# Altium integrated library Linear Technology Power Management Switching Regulator LTC1174-LTC3901.IntLib: 2647 symbols (part 57 of 364)
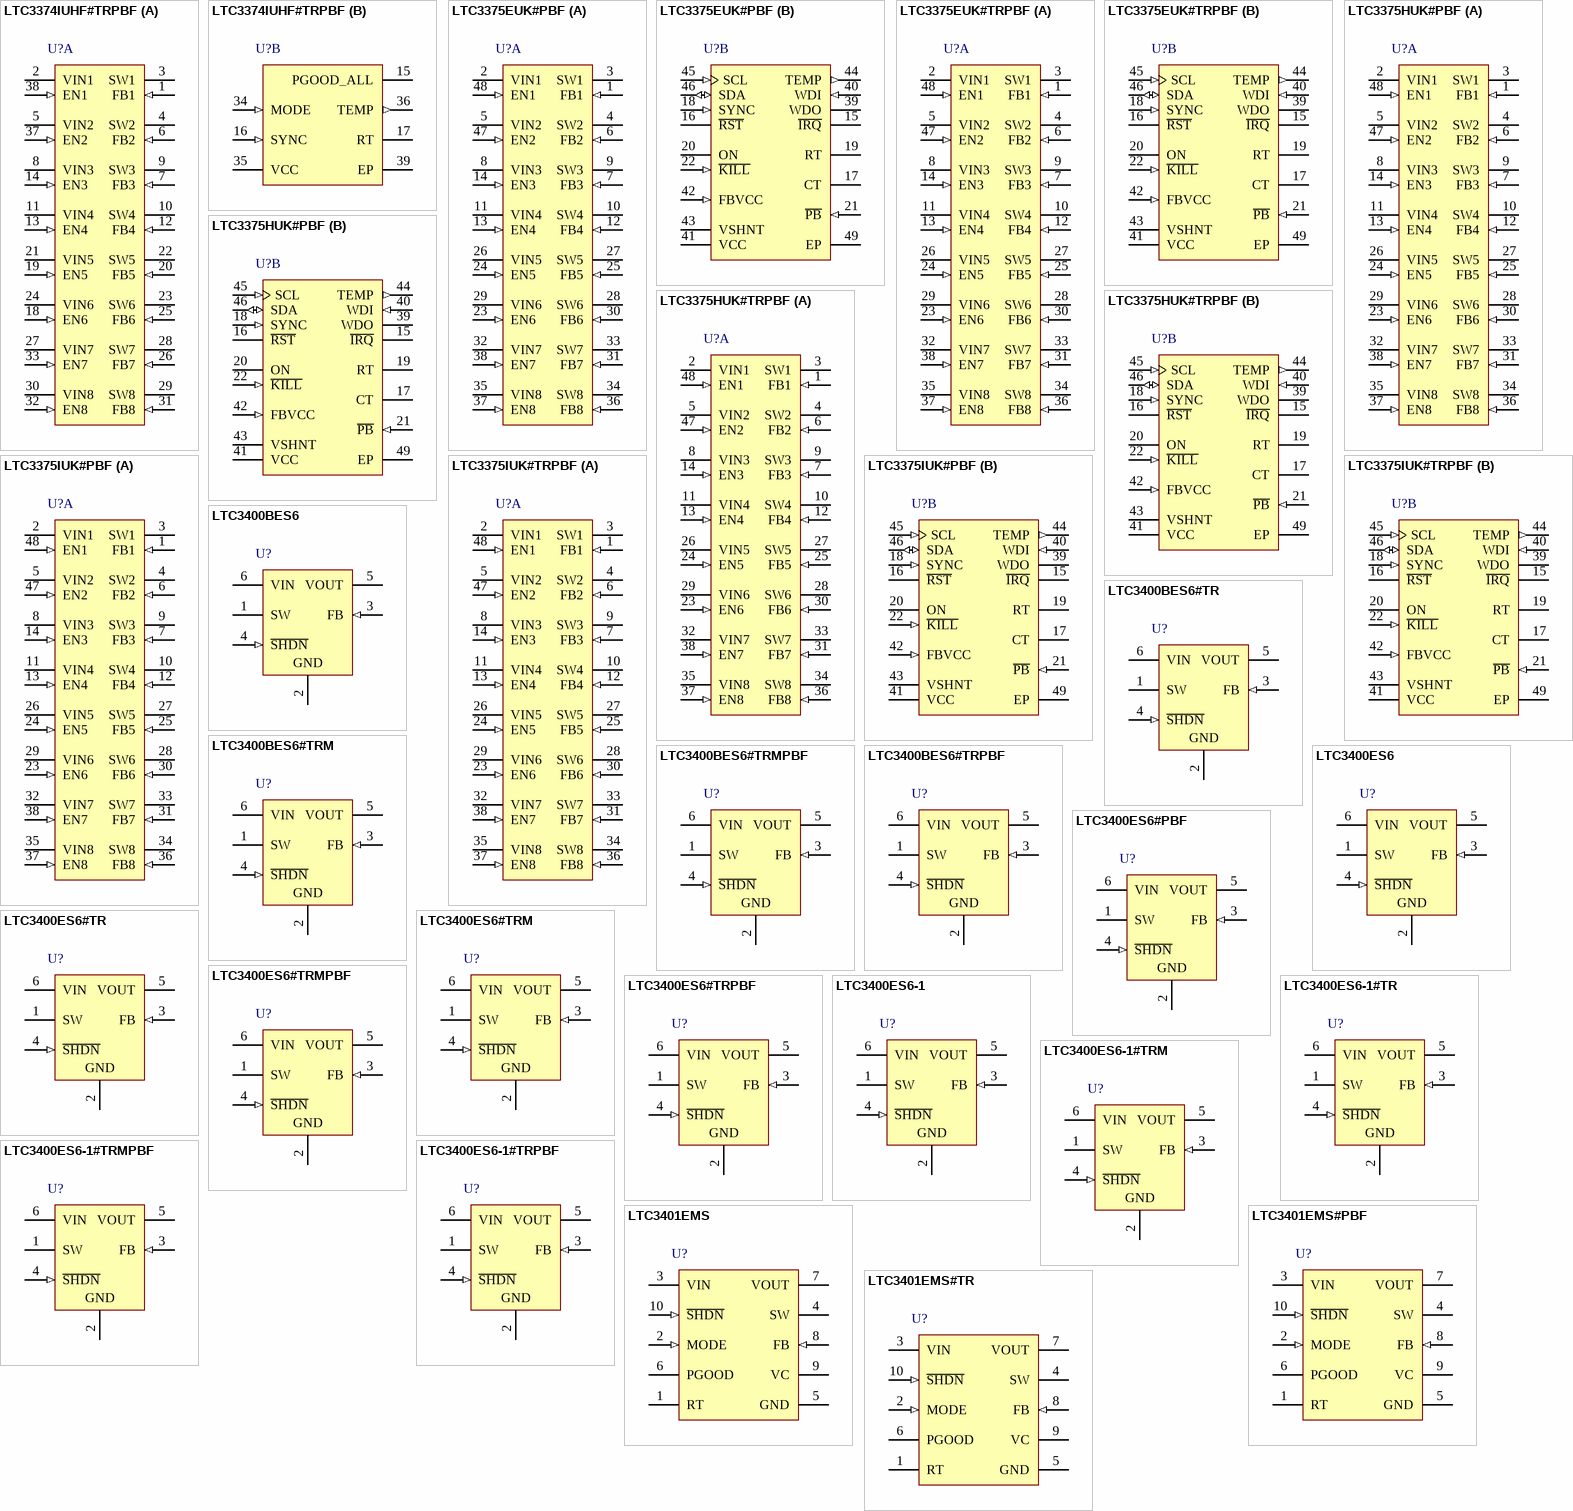
[diagram p244: symbols LTC3374IUHF#TRPBF to LTC3401EMS#TR]

## LTC3400ES6-1
designator U?
600 mA, 1.2 MHz Micropower Synchronous Boost Converter, 6-pin SOT23 (S6-6), -30 to 85 degC; Manufacturer: Linear Technology; PartNumber: LTC3400ES6-1; Number of Outputs: 1; PackageVersion: Jun-10; PackageReference: S6-6; PackageDescription: 6-Pin Plastic TSOT-23, Body 2.9 x 1.63 mm, Pitch 0.95 mm; RoHS: FALSE; Mounting Technology: Surface Mount; Code_JEDEC: MO-193; ComponentLink1Description: Manufacturer URL; ComponentLink1URL: http://www.linear.com/; ComponentLink2Description: Datasheet; ComponentLink2URL: http://cds.linear.com/docs/en/datasheet/34001f.pdf; ComponentLink3Description: Package Specification; ComponentLink3URL: http://cds.linear.com/docs/en/packaging/SOT_6_05-08-1636.pdf
footprint LT-S6-6-TSOT-23_N (SOT23, 6-Leads, Body 2.9x1.75mm, Pitch 0.95mm, IPC Medium Density)
footprint LT-S6-6-TSOT-23_L (SOT23, 6-Leads, Body 2.9x1.75mm, Pitch 0.95mm, IPC High Density)
footprint LT-S6-6-TSOT-23_M (SOT23, 6-Leads, Body 2.9x1.75mm, Pitch 0.95mm, IPC Low Density)
pins: 1 SW, 2 GND (power), 3 FB (in), 4 ~{SHDN} (in), 5 VOUT (power), 6 VIN (power)

## LTC3400ES6-1#TR
designator U?
600 mA, 1.2 MHz Micropower Synchronous Boost Converter, 6-pin SOT23 (S6-6), -30 to 85 degC, Tape and Reel; Manufacturer: Linear Technology; PartNumber: LTC3400ES6-1#TR; Number of Outputs: 1; PackageVersion: Jun-10; PackageReference: S6-6; PackageDescription: 6-Pin Plastic TSOT-23, Body 2.9 x 1.63 mm, Pitch 0.95 mm; Supplier 1: Digi-Key; Supplier Part Number 1: LTC3400ES6-1#TR-ND; Packing: Tape and Reel; RoHS: FALSE; Mounting Technology: Surface Mount; Code_JEDEC: MO-193; ComponentLink1Description: Manufacturer URL; ComponentLink1URL: http://www.linear.com/; ComponentLink2Description: Datasheet; ComponentLink2URL: http://cds.linear.com/docs/en/datasheet/34001f.pdf; ComponentLink3Description: Package Specification; ComponentLink3URL: http://cds.linear.com/docs/en/packaging/SOT_6_05-08-1636.pdf
footprint LT-S6-6-TSOT-23_N (SOT23, 6-Leads, Body 2.9x1.75mm, Pitch 0.95mm, IPC Medium Density)
footprint LT-S6-6-TSOT-23_L (SOT23, 6-Leads, Body 2.9x1.75mm, Pitch 0.95mm, IPC High Density)
footprint LT-S6-6-TSOT-23_M (SOT23, 6-Leads, Body 2.9x1.75mm, Pitch 0.95mm, IPC Low Density)
pins: 1 SW, 2 GND (power), 3 FB (in), 4 ~{SHDN} (in), 5 VOUT (power), 6 VIN (power)

## LTC3400ES6-1#TRM
designator U?
600 mA, 1.2 MHz Micropower Synchronous Boost Converter, 6-pin SOT23 (S6-6), -30 to 85 degC, Mini Tape and Reel; Manufacturer: Linear Technology; PartNumber: LTC3400ES6-1#TRM; Number of Outputs: 1; PackageVersion: Jun-10; PackageReference: S6-6; PackageDescription: 6-Pin Plastic TSOT-23, Body 2.9 x 1.63 mm, Pitch 0.95 mm; Supplier 1: Digi-Key; Supplier Part Number 1: LTC3400ES6-1#TRM-ND; Packing: Mini Tape and Reel; RoHS: FALSE; Mounting Technology: Surface Mount; Code_JEDEC: MO-193; ComponentLink1Description: Manufacturer URL; ComponentLink1URL: http://www.linear.com/; ComponentLink2Description: Datasheet; ComponentLink2URL: http://cds.linear.com/docs/en/datasheet/34001f.pdf; ComponentLink3Description: Package Specification; ComponentLink3URL: http://cds.linear.com/docs/en/packaging/SOT_6_05-08-1636.pdf
footprint LT-S6-6-TSOT-23_N (SOT23, 6-Leads, Body 2.9x1.75mm, Pitch 0.95mm, IPC Medium Density)
footprint LT-S6-6-TSOT-23_L (SOT23, 6-Leads, Body 2.9x1.75mm, Pitch 0.95mm, IPC High Density)
footprint LT-S6-6-TSOT-23_M (SOT23, 6-Leads, Body 2.9x1.75mm, Pitch 0.95mm, IPC Low Density)
pins: 1 SW, 2 GND (power), 3 FB (in), 4 ~{SHDN} (in), 5 VOUT (power), 6 VIN (power)

## LTC3400ES6-1#TRMPBF
designator U?
600 mA, 1.2 MHz Micropower Synchronous Boost Converter, 6-pin SOT23 (S6-6), -30 to 85 degC, Pb-Free, Mini Tape and Reel; Manufacturer: Linear Technology; PartNumber: LTC3400ES6-1#TRMPBF; Number of Outputs: 1; PackageVersion: Jun-10; PackageReference: S6-6; PackageDescription: 6-Pin Plastic TSOT-23, Body 2.9 x 1.63 mm, Pitch 0.95 mm; Supplier 1: Digi-Key; Supplier Part Number 1: LTC3400ES6-1#TRMPBF-ND; Packing: Mini Tape and Reel; RoHS: TRUE; Mounting Technology: Surface Mount; Code_JEDEC: MO-193; ComponentLink1Description: Manufacturer URL; ComponentLink1URL: http://www.linear.com/; ComponentLink2Description: Datasheet; ComponentLink2URL: http://cds.linear.com/docs/en/datasheet/34001f.pdf; ComponentLink3Description: Package Specification; ComponentLink3URL: http://cds.linear.com/docs/en/packaging/SOT_6_05-08-1636.pdf
footprint LT-S6-6-TSOT-23_N (SOT23, 6-Leads, Body 2.9x1.75mm, Pitch 0.95mm, IPC Medium Density)
footprint LT-S6-6-TSOT-23_L (SOT23, 6-Leads, Body 2.9x1.75mm, Pitch 0.95mm, IPC High Density)
footprint LT-S6-6-TSOT-23_M (SOT23, 6-Leads, Body 2.9x1.75mm, Pitch 0.95mm, IPC Low Density)
pins: 1 SW, 2 GND (power), 3 FB (in), 4 ~{SHDN} (in), 5 VOUT (power), 6 VIN (power)

## LTC3400ES6-1#TRPBF
designator U?
600 mA, 1.2 MHz Micropower Synchronous Boost Converter, 6-pin SOT23 (S6-6), -30 to 85 degC, Pb-Free, Tape and Reel; Manufacturer: Linear Technology; PartNumber: LTC3400ES6-1#TRPBF; Number of Outputs: 1; PackageVersion: Jun-10; PackageReference: S6-6; PackageDescription: 6-Pin Plastic TSOT-23, Body 2.9 x 1.63 mm, Pitch 0.95 mm; Supplier 1: Digi-Key; Supplier Part Number 1: LTC3400ES6-1#TRPBF-ND; Packing: Tape and Reel; RoHS: TRUE; Mounting Technology: Surface Mount; Code_JEDEC: MO-193; ComponentLink1Description: Manufacturer URL; ComponentLink1URL: http://www.linear.com/; ComponentLink2Description: Datasheet; ComponentLink2URL: http://cds.linear.com/docs/en/datasheet/34001f.pdf; ComponentLink3Description: Package Specification; ComponentLink3URL: http://cds.linear.com/docs/en/packaging/SOT_6_05-08-1636.pdf
footprint LT-S6-6-TSOT-23_N (SOT23, 6-Leads, Body 2.9x1.75mm, Pitch 0.95mm, IPC Medium Density)
footprint LT-S6-6-TSOT-23_L (SOT23, 6-Leads, Body 2.9x1.75mm, Pitch 0.95mm, IPC High Density)
footprint LT-S6-6-TSOT-23_M (SOT23, 6-Leads, Body 2.9x1.75mm, Pitch 0.95mm, IPC Low Density)
pins: 1 SW, 2 GND (power), 3 FB (in), 4 ~{SHDN} (in), 5 VOUT (power), 6 VIN (power)

## LTC3401EMS
designator U?
1 A, 3 MHz Micropower Synchronous Boost Converter, 10-pin SOP (MS-10), -40 to 85 degC; Manufacturer: Linear Technology; PartNumber: LTC3401EMS; Number of Outputs: 1; DatasheetVersion: Rev. B; PackageVersion: Rev. E, 06/2010; PackageReference: MS-10; PackageDescription: 10-Pin Plastic MSOP, Body 3 x 3 mm, Pitch 0.5 mm; Supplier 1: Digi-Key; Supplier Part Number 1: LTC3401EMS-ND; RoHS: FALSE; Mounting Technology: Surface Mount; ComponentLink1Description: Manufacturer URL; ComponentLink1URL: http://www.linear.com/; ComponentLink2Description: Datasheet; ComponentLink2URL: http://cds.linear.com/docs/en/datasheet/3401fb.pdf; ComponentLink3Description: Package Specification; ComponentLink3URL: http://cds.linear.com/docs/en/packaging/05081661_F_MS.pdf
footprint LT-MS-10_N (SOP, 10-Leads, Body 3.1x3.1mm, Pitch 0.5mm, IPC Medium Density)
footprint LT-MS-10_L (SOP, 10-Leads, Body 3.1x3.1mm, Pitch 0.5mm, IPC High Density)
footprint LT-MS-10_M (SOP, 10-Leads, Body 3.1x3.1mm, Pitch 0.5mm, IPC Low Density)
pins: 1 RT "Timing Resistor to Program the Oscillator Frequency.", 2 MODE (in) "Burst Mode Select and Oscillator Synchronization. MODE/SYNC = High. Enable Burst Mode operation. The inductor peak inductor current will be 1/3 the current limit value and return to zero current on each cycle. During Burst (See Datasheet)", 3 VIN (power) "Input Supply Pin", 4 SW "Switch Pin. Connect inductor and Schottky diode here. For applications with output voltages over 4.3V, a Schottky diode is required to ensure that the SW pin voltage does not exceed its absolute maximum rating. Minimize (See Datasheet)", 5 GND (power) "Signal and Power Ground for the IC.", 6 PGOOD (oc) "Power Good Comparator Output. This open-drain output is low when VFB < -9% from its regulation voltage.", 7 VOUT (power) "Output of the Synchronous Rectifier and Bootstrapped Power Source for the IC. A ceramic capacitor of at least 1uF is required and should be located as close to the VOUT and GND pins as possible (Pins 7 and 5).", 8 FB (in) "Feedback Pin. Connect resistor divider tap here. The output voltage can be adjusted from 2.6V to 5V. The feedback reference voltage is typically 1.25V.", 9 VC "Error Amp Output. A frequency compensation network is connected to this pin to compensate the loop. See the section “Compensating the Feedback Loop” for guidelines.", 10 ~{SHDN} (in) "Shutdown. Grounding this pin shuts down the IC. Tie to >1V to enable (VIN or digital gate output). To operate with input voltages below 1V once the converter has started, a 1M resistor from S\H\D\N\ to VIN and a 5M resistor (See Datasheet)"

## LTC3401EMS#PBF
designator U?
1 A, 3 MHz Micropower Synchronous Boost Converter, 10-pin SOP (MS-10), -40 to 85 degC, Pb-Free; Manufacturer: Linear Technology; PartNumber: LTC3401EMS#PBF; Number of Outputs: 1; DatasheetVersion: Rev. B; PackageVersion: Rev. E, 06/2010; PackageReference: MS-10; PackageDescription: 10-Pin Plastic MSOP, Body 3 x 3 mm, Pitch 0.5 mm; Supplier 1: Digi-Key; Supplier Part Number 1: LTC3401EMS#PBF-ND; Supplier 2: Farnell; Supplier Part Number 2: 1273925; Supplier 3: Newark; Supplier Part Number 3: 56M7495; RoHS: TRUE; Mounting Technology: Surface Mount; ComponentLink1Description: Manufacturer URL; ComponentLink1URL: http://www.linear.com/; ComponentLink2Description: Datasheet; ComponentLink2URL: http://cds.linear.com/docs/en/datasheet/3401fb.pdf; ComponentLink3Description: Package Specification; ComponentLink3URL: http://cds.linear.com/docs/en/packaging/05081661_F_MS.pdf
footprint LT-MS-10_N (SOP, 10-Leads, Body 3.1x3.1mm, Pitch 0.5mm, IPC Medium Density)
footprint LT-MS-10_L (SOP, 10-Leads, Body 3.1x3.1mm, Pitch 0.5mm, IPC High Density)
footprint LT-MS-10_M (SOP, 10-Leads, Body 3.1x3.1mm, Pitch 0.5mm, IPC Low Density)
pins: 1 RT "Timing Resistor to Program the Oscillator Frequency.", 2 MODE (in) "Burst Mode Select and Oscillator Synchronization. MODE/SYNC = High. Enable Burst Mode operation. The inductor peak inductor current will be 1/3 the current limit value and return to zero current on each cycle. During Burst (See Datasheet)", 3 VIN (power) "Input Supply Pin", 4 SW "Switch Pin. Connect inductor and Schottky diode here. For applications with output voltages over 4.3V, a Schottky diode is required to ensure that the SW pin voltage does not exceed its absolute maximum rating. Minimize (See Datasheet)", 5 GND (power) "Signal and Power Ground for the IC.", 6 PGOOD (oc) "Power Good Comparator Output. This open-drain output is low when VFB < -9% from its regulation voltage.", 7 VOUT (power) "Output of the Synchronous Rectifier and Bootstrapped Power Source for the IC. A ceramic capacitor of at least 1uF is required and should be located as close to the VOUT and GND pins as possible (Pins 7 and 5).", 8 FB (in) "Feedback Pin. Connect resistor divider tap here. The output voltage can be adjusted from 2.6V to 5V. The feedback reference voltage is typically 1.25V.", 9 VC "Error Amp Output. A frequency compensation network is connected to this pin to compensate the loop. See the section “Compensating the Feedback Loop” for guidelines.", 10 ~{SHDN} (in) "Shutdown. Grounding this pin shuts down the IC. Tie to >1V to enable (VIN or digital gate output). To operate with input voltages below 1V once the converter has started, a 1M resistor from S\H\D\N\ to VIN and a 5M resistor (See Datasheet)"

## LTC3401EMS#TR
designator U?
1 A, 3 MHz Micropower Synchronous Boost Converter, 10-pin SOP (MS-10), -40 to 85 degC, Tape and Reel; Manufacturer: Linear Technology; PartNumber: LTC3401EMS#TR; Number of Outputs: 1; DatasheetVersion: Rev. B; PackageVersion: Rev. E, 06/2010; PackageReference: MS-10; PackageDescription: 10-Pin Plastic MSOP, Body 3 x 3 mm, Pitch 0.5 mm; Supplier 1: Digi-Key; Supplier Part Number 1: LTC3401EMSTR-ND; Packing: Tape and Reel; RoHS: FALSE; Mounting Technology: Surface Mount; ComponentLink1Description: Manufacturer URL; ComponentLink1URL: http://www.linear.com/; ComponentLink2Description: Datasheet; ComponentLink2URL: http://cds.linear.com/docs/en/datasheet/3401fb.pdf; ComponentLink3Description: Package Specification; ComponentLink3URL: http://cds.linear.com/docs/en/packaging/05081661_F_MS.pdf
footprint LT-MS-10_N (SOP, 10-Leads, Body 3.1x3.1mm, Pitch 0.5mm, IPC Medium Density)
footprint LT-MS-10_L (SOP, 10-Leads, Body 3.1x3.1mm, Pitch 0.5mm, IPC High Density)
footprint LT-MS-10_M (SOP, 10-Leads, Body 3.1x3.1mm, Pitch 0.5mm, IPC Low Density)
pins: 1 RT "Timing Resistor to Program the Oscillator Frequency.", 2 MODE (in) "Burst Mode Select and Oscillator Synchronization. MODE/SYNC = High. Enable Burst Mode operation. The inductor peak inductor current will be 1/3 the current limit value and return to zero current on each cycle. During Burst (See Datasheet)", 3 VIN (power) "Input Supply Pin", 4 SW "Switch Pin. Connect inductor and Schottky diode here. For applications with output voltages over 4.3V, a Schottky diode is required to ensure that the SW pin voltage does not exceed its absolute maximum rating. Minimize (See Datasheet)", 5 GND (power) "Signal and Power Ground for the IC.", 6 PGOOD (oc) "Power Good Comparator Output. This open-drain output is low when VFB < -9% from its regulation voltage.", 7 VOUT (power) "Output of the Synchronous Rectifier and Bootstrapped Power Source for the IC. A ceramic capacitor of at least 1uF is required and should be located as close to the VOUT and GND pins as possible (Pins 7 and 5).", 8 FB (in) "Feedback Pin. Connect resistor divider tap here. The output voltage can be adjusted from 2.6V to 5V. The feedback reference voltage is typically 1.25V.", 9 VC "Error Amp Output. A frequency compensation network is connected to this pin to compensate the loop. See the section “Compensating the Feedback Loop” for guidelines.", 10 ~{SHDN} (in) "Shutdown. Grounding this pin shuts down the IC. Tie to >1V to enable (VIN or digital gate output). To operate with input voltages below 1V once the converter has started, a 1M resistor from S\H\D\N\ to VIN and a 5M resistor (See Datasheet)"

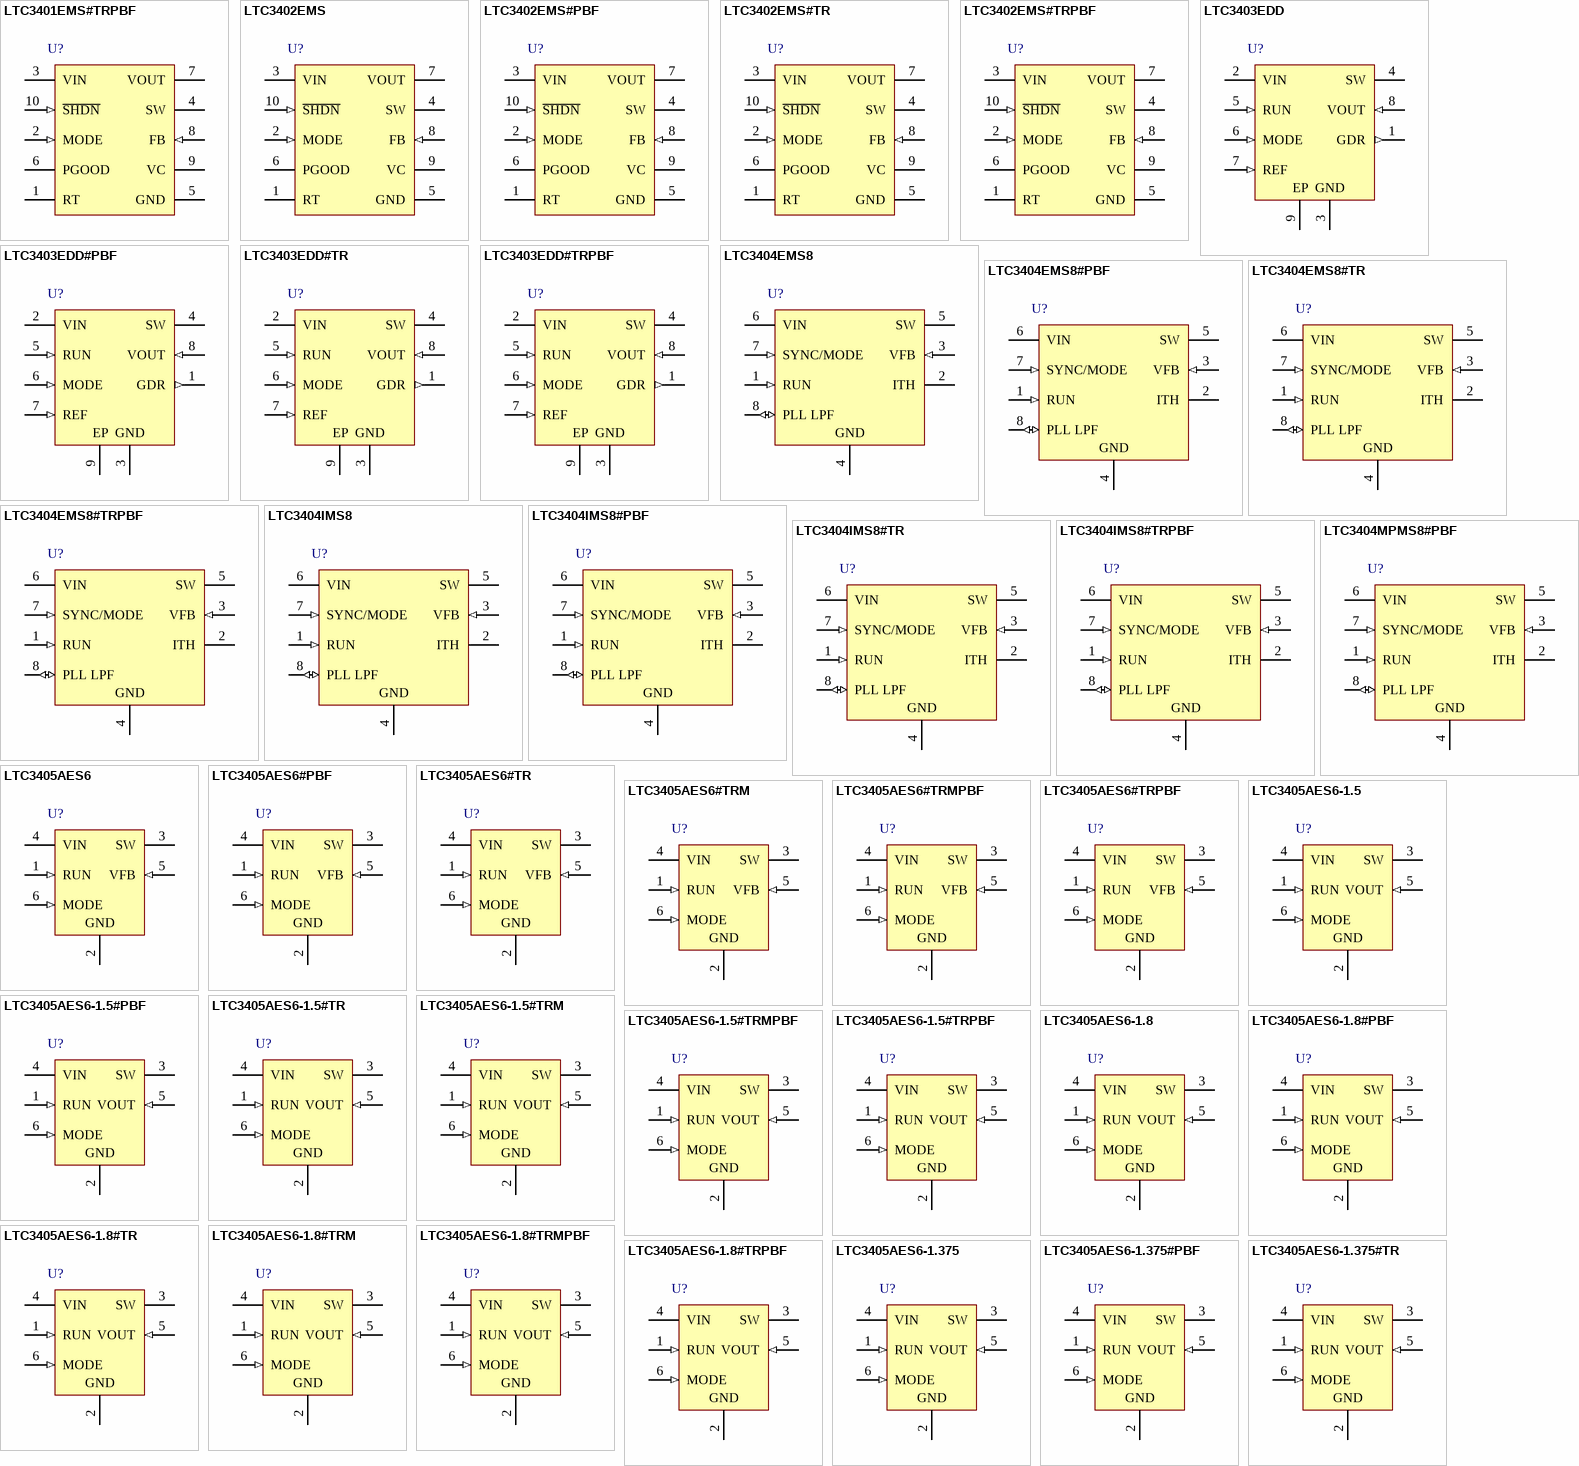
[diagram p17: symbols LTC3401EMS#TRPBF to LTC3405AES6-1.375#TR]